# Altium footprint library texas_instruments.PcbLib: 28 footprints (part 1 of 2)
Each footprint in its own frame and in the unit in brackets; x right, y up, seen from the top. Pads: shape width x height; smd on the part's side, far side on the other; paste and mask are expansions set on the pad; w line width, h text height; cw(c..) or ccw(c..) is an arc to the next point about the centre after c.
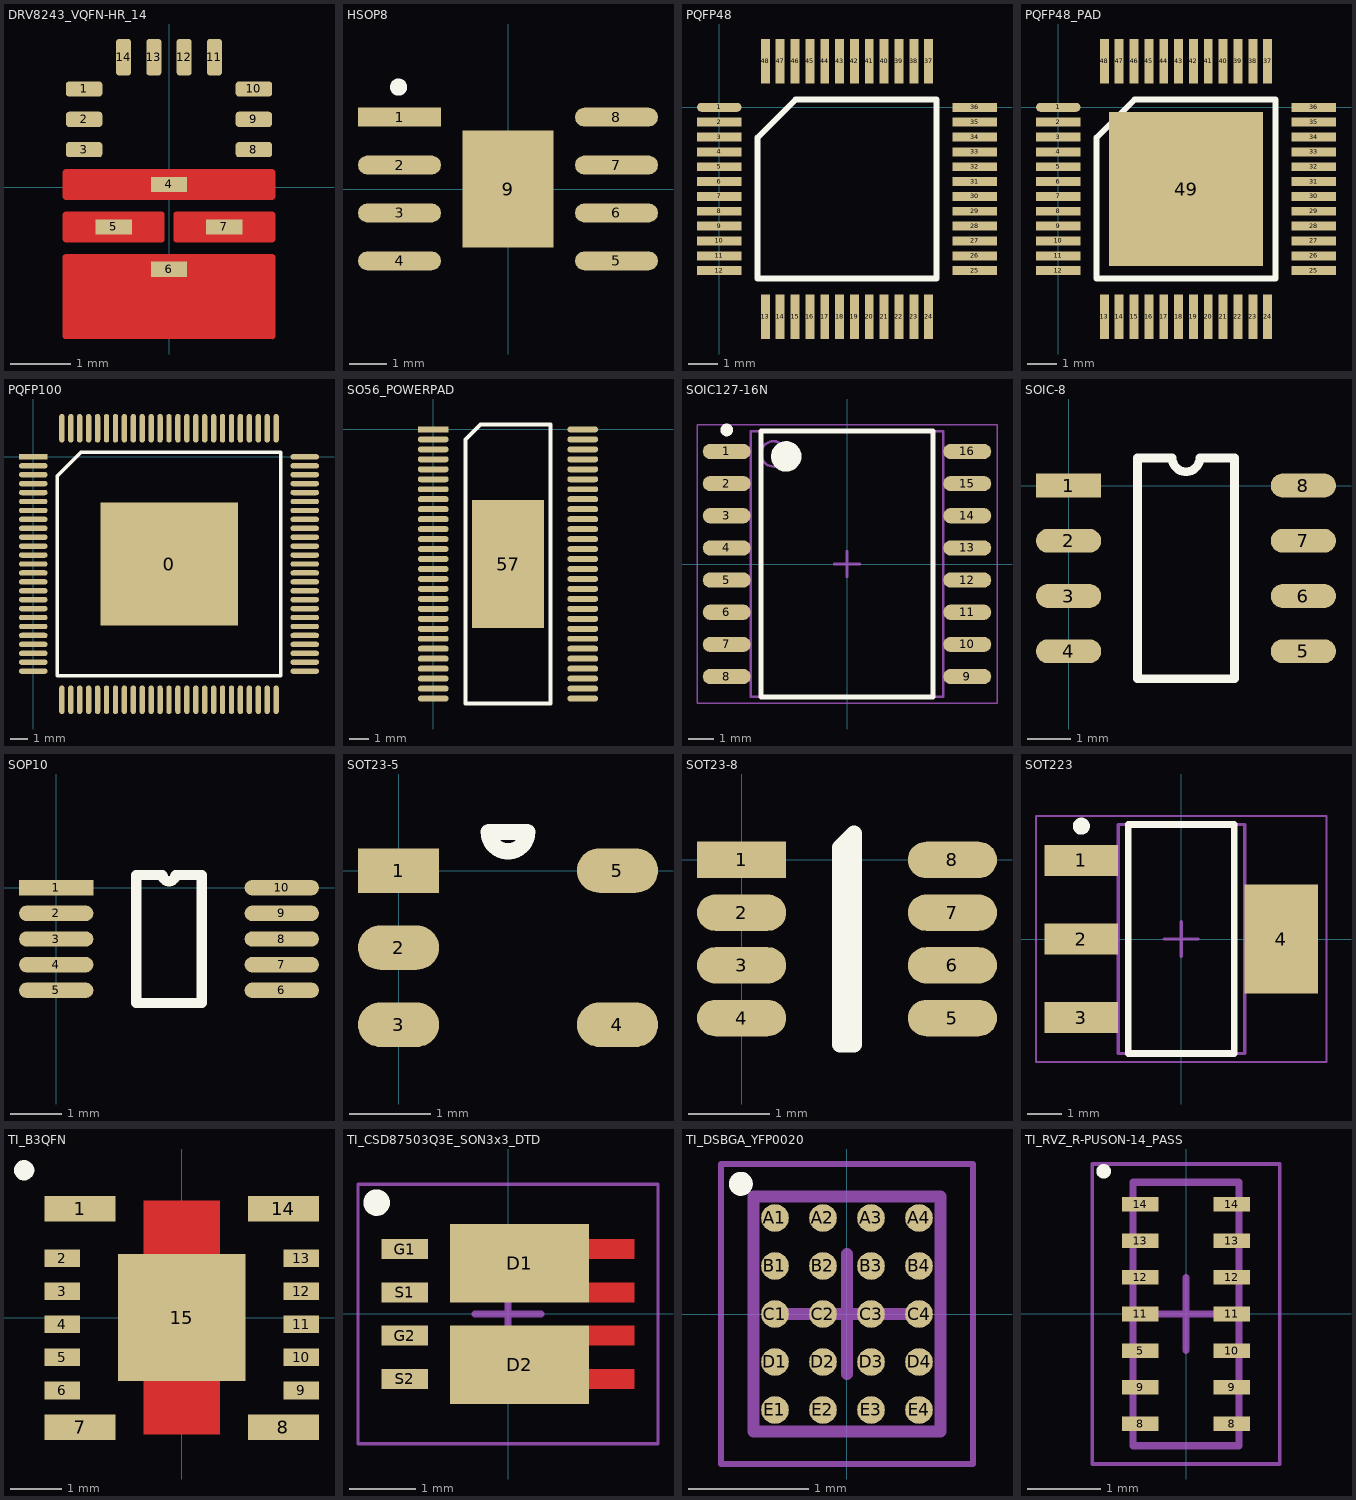
[diagram p0: the footprints below, top view; thin cyan lines are the x and y axes]

## DRV8243_VQFN-HR_14 [mm]
pads (14):
  rrect40% 0.6x0.25 smd paste+0 mask+0.05: 1(-1.4,1.625) 2(-1.4,1.125) 3(-1.4,0.625) 8(1.4,0.625) 9(1.4,1.125) 10(1.4,1.625)
  rect 0.6x0.25 smd paste-2539.97 mask+0: 4(0,0.05) 5(-0.912,-0.65) 6(0,-1.35) 7(0.912,-0.65)
  rrect40% 0.25x0.6 smd paste+0 mask+0.05: 11(0.75,2.15) 12(0.25,2.15) 13(-0.25,2.15) 14(-0.75,2.15)
Top Layer:
  region: 0.124,-0.4 1.7,-0.4 1.71,-0.4 1.728,-0.408 1.742,-0.421 1.749,-0.44 1.749,-0.45 1.749,-0.449 1.749,-0.851 1.749,-0.86 1.742,-0.879 1.728,-0.892 1.71,-0.9 1.7,-0.9 0.124,-0.9 0.114,-0.9 0.096,-0.892 0.082,-0.879 0.074,-0.86 0.075,-0.851 0.075,-0.85 0.075,-0.45 0.075,-0.44 0.082,-0.421 0.096,-0.408 0.114,-0.4
  region: -1.7,-1.1 1.7,-1.1 1.71,-1.1 1.728,-1.108 1.742,-1.122 1.75,-1.14 1.75,-1.15 1.75,-2.45 1.75,-2.46 1.742,-2.478 1.728,-2.492 1.71,-2.5 1.7,-2.5 -1.7,-2.5 -1.71,-2.5 -1.728,-2.492 -1.742,-2.478 -1.75,-2.46 -1.75,-2.45 -1.75,-1.15 -1.75,-1.14 -1.742,-1.122 -1.728,-1.108 -1.71,-1.1
  region: -1.7,-0.4 -0.125,-0.4 -0.115,-0.4 -0.096,-0.408 -0.082,-0.422 -0.075,-0.44 -0.075,-0.451 -0.075,-0.45 -0.075,-0.85 -0.075,-0.86 -0.082,-0.878 -0.096,-0.892 -0.115,-0.9 -0.125,-0.9 -1.7,-0.9 -1.71,-0.9 -1.728,-0.892 -1.742,-0.879 -1.75,-0.86 -1.75,-0.851 -1.75,-0.85 -1.75,-0.45 -1.75,-0.44 -1.742,-0.422 -1.728,-0.408 -1.71,-0.4
  region: -1.7,0.3 1.7,0.3 1.71,0.3 1.728,0.292 1.742,0.278 1.75,0.26 1.75,0.25 1.75,-0.15 1.75,-0.16 1.742,-0.178 1.728,-0.192 1.71,-0.2 1.7,-0.2 -1.7,-0.2 -1.71,-0.2 -1.728,-0.192 -1.742,-0.178 -1.75,-0.16 -1.75,-0.15 -1.75,0.25 -1.75,0.26 -1.742,0.278 -1.728,0.292 -1.71,0.3
Top Paste:
  drawing of 10 lines, arcs and shapes, not listed
Top Solder:
  drawing of 4 lines, arcs and shapes, not listed
3D body "DRV8243.step": height 1, standoff 0, extent -1.501,-2.251 1.501,2.251

## HSOP8 [mm]
pads (9):
  rect 2.2x0.5 smd: 1(-2.875,1.905)
  oval 2.2x0.5 smd: 2(-2.875,0.635) 3(-2.875,-0.635) 4(-2.875,-1.905) 5(2.875,-1.905) 6(2.875,-0.635) 7(2.875,0.635) 8(2.875,1.905)
  rect 2.4x3.1 smd: 9(0,0)
Top Overlay:
  circle w0.254: c-2.9,2.7 r0.1
3D body "HSOP-8-DDA.step": height 1.7, standoff 0, extent -3.014,-2.346 3.014,2.347

## PQFP48 [mm]
pads (48):
  oval 1.5x0.3 smd: 1(0,0)
  rect 1.5x0.3 smd: 2(0,-0.5) 3(0,-1) 4(0,-1.5) 5(0,-2) 6(0,-2.5) 7(0,-3) 8(0,-3.5) 9(0,-4) 10(0,-4.5) 11(0,-5) 12(0,-5.5) 25(8.6,-5.5) 26(8.6,-5) 27(8.6,-4.5) 28(8.6,-4) 29(8.6,-3.5) 30(8.6,-3) 31(8.6,-2.5) 32(8.6,-2) 33(8.6,-1.5) 34(8.6,-1) 35(8.6,-0.5) 36(8.6,0)
  rect 0.3x1.5 smd: 13(1.55,-7.05) 14(2.05,-7.05) 15(2.55,-7.05) 16(3.05,-7.05) 17(3.55,-7.05) 18(4.05,-7.05) 19(4.55,-7.05) 20(5.05,-7.05) 21(5.55,-7.05) 22(6.05,-7.05) 23(6.55,-7.05) 24(7.05,-7.05) 37(7.05,1.55) 38(6.55,1.55) 39(6.05,1.55) 40(5.55,1.55) 41(5.05,1.55) 42(4.55,1.55) 43(4.05,1.55) 44(3.55,1.55) 45(3.05,1.55) 46(2.55,1.55) 47(2.05,1.55) 48(1.55,1.55)
Top Overlay:
  lines w0.2: 1.285,-5.765 7.315,-5.765 7.315,0.265 2.57,0.265 1.285,-1.02 1.285,-5.765
3D body "User Library-LQFP48-2.STEP": height 1.62, standoff -0.01, extent -0.268,-7.325 8.875,1.818

## PQFP48_PAD [mm]
pads (49):
  oval 1.5x0.3 smd: 1(0,0)
  rect 1.5x0.3 smd: 2(0,-0.5) 3(0,-1) 4(0,-1.5) 5(0,-2) 6(0,-2.5) 7(0,-3) 8(0,-3.5) 9(0,-4) 10(0,-4.5) 11(0,-5) 12(0,-5.5) 25(8.6,-5.5) 26(8.6,-5) 27(8.6,-4.5) 28(8.6,-4) 29(8.6,-3.5) 30(8.6,-3) 31(8.6,-2.5) 32(8.6,-2) 33(8.6,-1.5) 34(8.6,-1) 35(8.6,-0.5) 36(8.6,0)
  rect 0.3x1.5 smd: 13(1.55,-7.05) 14(2.05,-7.05) 15(2.55,-7.05) 16(3.05,-7.05) 17(3.55,-7.05) 18(4.05,-7.05) 19(4.55,-7.05) 20(5.05,-7.05) 21(5.55,-7.05) 22(6.05,-7.05) 23(6.55,-7.05) 24(7.05,-7.05) 37(7.05,1.55) 38(6.55,1.55) 39(6.05,1.55) 40(5.55,1.55) 41(5.05,1.55) 42(4.55,1.55) 43(4.05,1.55) 44(3.55,1.55) 45(3.05,1.55) 46(2.55,1.55) 47(2.05,1.55) 48(1.55,1.55)
  rect 5.2x5.2 smd: 49(4.3,-2.75)
Top Overlay:
  lines w0.2: 1.285,-5.765 1.285,-1.02 2.57,0.265 7.315,0.265 7.315,-5.765 1.285,-5.765
3D body "User Library-LQFP48-2.STEP": height 1.62, standoff -0.01, extent -0.268,-7.325 8.875,1.818

## PQFP100 [mm]
pads (101):
  rect 7.7x6.9 smd: 0(7.6,-6)
  rect 1.6x0.3 smd: 1(0,0)
  oval 1.6x0.3 smd: 2(0,-0.5) 3(0,-1) 4(0,-1.5) 5(0,-2) 6(0,-2.5) 7(0,-3) 8(0,-3.5) 9(0,-4) 10(0,-4.5) 11(0,-5) 12(0,-5.5) 13(0,-6) 14(0,-6.5) 15(0,-7) 16(0,-7.5) 17(0,-8) 18(0,-8.5) 19(0,-9) 20(0,-9.5) 21(0,-10) 22(0,-10.5) 23(0,-11) 24(0,-11.5) 25(0,-12) 51(15.2,-12) 52(15.2,-11.5) 53(15.2,-11) 54(15.2,-10.5) 55(15.2,-10) 56(15.2,-9.5) 57(15.2,-9) 58(15.2,-8.5) 59(15.2,-8) 60(15.2,-7.5) 61(15.2,-7) 62(15.2,-6.5) 63(15.2,-6) 64(15.2,-5.5) 65(15.2,-5) 66(15.2,-4.5) 67(15.2,-4) 68(15.2,-3.5) 69(15.2,-3) 70(15.2,-2.5) 71(15.2,-2) 72(15.2,-1.5) 73(15.2,-1) 74(15.2,-0.5) 75(15.2,0)
  oval 0.3x1.6 smd: 26(1.6,-13.6) 27(2.1,-13.6) 28(2.6,-13.6) 29(3.1,-13.6) 30(3.6,-13.6) 31(4.1,-13.6) 32(4.6,-13.6) 33(5.1,-13.6) 34(5.6,-13.6) 35(6.1,-13.6) 36(6.6,-13.6) 37(7.1,-13.6) 38(7.6,-13.6) 39(8.1,-13.6) 40(8.6,-13.6) 41(9.1,-13.6) 42(9.6,-13.6) 43(10.1,-13.6) 44(10.6,-13.6) 45(11.1,-13.6) 46(11.6,-13.6) 47(12.1,-13.6) 48(12.6,-13.6) 49(13.1,-13.6) 50(13.6,-13.6) 76(13.6,1.6) 77(13.1,1.6) 78(12.6,1.6) 79(12.1,1.6) 80(11.6,1.6) 81(11.1,1.6) 82(10.6,1.6) 83(10.1,1.6) 84(9.6,1.6) 85(9.1,1.6) 86(8.6,1.6) 87(8.1,1.6) 88(7.6,1.6) 89(7.1,1.6) 90(6.6,1.6) 91(6.1,1.6) 92(5.6,1.6) 93(5.1,1.6) 94(4.6,1.6) 95(4.1,1.6) 96(3.6,1.6) 97(3.1,1.6) 98(2.6,1.6) 99(2.1,1.6) 100(1.6,1.6)
Top Overlay:
  lines w0.2: 1.335,-12.265 13.865,-12.265 13.865,0.265 2.67,0.265 1.335,-1.07 1.335,-12.265
3D body "TQFP100.STEP": height 1.61, standoff -0.01, extent -0.4,-14 15.6,2

## SO56_POWERPAD [mm]
height 1.2
pads (57):
  rect 1.55x0.3 smd: 1(0,0)
  oval 1.55x0.3 smd: 2(0,-0.5) 3(0,-1) 4(0,-1.5) 5(0,-2) 6(0,-2.5) 7(0,-3) 8(0,-3.5) 9(0,-4) 10(0,-4.5) 11(0,-5) 12(0,-5.5) 13(0,-6) 14(0,-6.5) 15(0,-7) 16(0,-7.5) 17(0,-8) 18(0,-8.5) 19(0,-9) 20(0,-9.5) 21(0,-10) 22(0,-10.5) 23(0,-11) 24(0,-11.5) 25(0,-12) 26(0,-12.5) 27(0,-13) 28(0,-13.5) 29(7.5,-13.5) 30(7.5,-13) 31(7.5,-12.5) 32(7.5,-12) 33(7.5,-11.5) 34(7.5,-11) 35(7.5,-10.5) 36(7.5,-10) 37(7.5,-9.5) 38(7.5,-9) 39(7.5,-8.5) 40(7.5,-8) 41(7.5,-7.5) 42(7.5,-7) 43(7.5,-6.5) 44(7.5,-6) 45(7.5,-5.5) 46(7.5,-5) 47(7.5,-4.5) 48(7.5,-4) 49(7.5,-3.5) 50(7.5,-3) 51(7.5,-2.5) 52(7.5,-2) 53(7.5,-1.5) 54(7.5,-1) 55(7.5,-0.5) 56(7.5,0)
  rect 3.6x6.4 smd: 57(3.75,-6.75)
Top Overlay:
  lines w0.2: 5.875,0.25 2.375,0.25 1.61,-0.515 1.61,-13.75 5.89,-13.75 5.89,0.25

## SOIC127-16N [mm] "SOIC, 16-Leads, Body 10,30x7,50mm, Pitch 1,27mm, IPC Medium Density"
height 2.65
pads (16):
  oval 1.9x0.6 smd: 1(-4.75,4.445) 2(-4.75,3.175) 3(-4.75,1.905) 4(-4.75,0.635) 5(-4.75,-0.635) 6(-4.75,-1.905) 7(-4.75,-3.175) 8(-4.75,-4.445) 9(4.75,-4.445) 10(4.75,-3.175) 11(4.75,-1.905) 12(4.75,-0.635) 13(4.75,0.635) 14(4.75,1.905) 15(4.75,3.175) 16(4.75,4.445)
Top Overlay:
  circle w0.25: c-4.75,5.295 r0.125
  circle w0.6: c-2.4,4.25 r0.3
  lines w0.2: -3.4,-5.25 -3.4,5.25 3.4,5.25 3.4,-5.25 -3.4,-5.25
Mechanical 13:
  circle w0.1: c-2.9,4.35 r0.5
  lines w0.1: -3.8,-5.25 -3.8,5.25 3.8,5.25 3.8,-5.25 -3.8,-5.25
Mechanical 15:
  lines w0.05: -5.925,-5.5 -5.925,5.5 5.925,5.5 5.925,-5.5 -5.925,-5.5
  lines w0.1: -0.5,0 0.5,0 ; 0,-0.5 0,0.5
3D body: height 2.65, standoff 0, extent -3.8,-5.25 3.8,5.25

## SOIC-8 [mm]
height 1.75
pads (8):
  rect 1.5x0.55 smd: 1(0,0)
  oval 1.5x0.55 smd: 2(0,-1.27) 3(0,-2.54) 4(0,-3.81) 5(5.4,-3.81) 6(5.4,-2.54) 7(5.4,-1.27) 8(5.4,0)
Top Overlay:
  lines w0.2: 1.585,-4.445 3.815,-4.445 3.815,0.635 3.017,0.635 cw(c2.7,0.635) 2.382,0.635 1.585,0.635 1.585,-4.445

## SOP10 [mm]
pads (10):
  rect 1.45x0.3 smd: 1(0,0)
  oval 1.45x0.3 smd: 2(0,-0.5) 3(0,-1) 4(0,-1.5) 5(0,-2) 6(4.4,-2) 7(4.4,-1.5) 8(4.4,-1) 9(4.4,-0.5) 10(4.4,0)
Top Overlay:
  lines w0.2: 1.56,-2.25 1.56,0.25 2.075,0.25 ccw(c2.2,0.25) 2.325,0.25 2.84,0.25 2.84,-2.25 1.56,-2.25
3D body "User Library-msop-10.step": height 1.15, standoff 0, extent -0.275,-2.5 4.625,0.5

## SOT23-5 [mm]
height 1.45
pads (5):
  rect 1x0.55 smd: 1(0,0)
  oval 1x0.55 smd: 2(0,-0.95) 3(0,-1.9) 4(2.7,-1.9) 5(2.7,0)
Top Overlay:
  lines w0.2: 1.335,0.475 1.112,0.475 ccw(c1.35,0.475) 1.587,0.475 1.365,0.475

## SOT23-8 [mm]
height 1.45
pads (8):
  rect 1.1x0.45 smd: 1(0,0)
  oval 1.1x0.45 smd: 2(0,-0.65) 3(0,-1.3) 4(0,-1.95) 5(2.6,-1.95) 6(2.6,-1.3) 7(2.6,-0.65) 8(2.6,0)
Top Overlay:
  lines w0.2: 1.215,-2.275 1.215,0.155 1.385,0.325 1.385,-2.275 1.215,-2.275
3D body "User Library-sot238.step": height 1.2, standoff 0, extent -0.075,-2.47 2.725,0.47

## SOT223 [mm] "SOT223, 4-Leads, Body 6,50x7,00mm (avg), Pitch 2,30mm, IPC Medium Density"
height 1.8
pads (4):
  rect 2.15x0.9 smd: 1(-2.925,2.3) 2(-2.925,0) 3(-2.925,-2.3)
  rect 2.15x3.2 smd: 4(2.925,0)
Top Overlay:
  circle w0.25: c-2.925,3.3 r0.125
  lines w0.2: -1.55,-3.35 1.55,-3.35 1.55,3.35 -1.55,3.35 -1.55,-3.35
Mechanical 13:
  lines w0.1: -1.85,-3.35 1.85,-3.35 1.85,3.35 -1.85,3.35 -1.85,-3.35
Mechanical 15:
  lines w0.05: -4.25,-3.6 4.25,-3.6 4.25,3.6 -4.25,3.6 -4.25,-3.6
  lines w0.1: -0.5,0 0.5,0 ; 0,-0.5 0,0.5
3D body: height 1.8, standoff 0.02, extent -1.85,-3.35 1.85,3.35

## TI_B3QFN [mm]
pads (15):
  rect 1.4x0.5 smd paste+0 mask+0.102: 1(-2,2.145) 7(-2,-2.155) 8(2,-2.155) 14(2,2.145)
  rect 0.7x0.35 smd paste+0 mask+0.102: 2(-2.35,1.17) 3(-2.35,0.52) 4(-2.35,-0.13) 5(-2.35,-0.78) 9(2.35,-1.43) 10(2.35,-0.78) 11(2.35,-0.13) 12(2.35,0.52) 13(2.35,1.17)
  rect 0.7x0.35 smd: 6(-2.35,-1.43)
  rect 2.5x2.5 smd paste+0 mask+0.102: 15(0,0)
Top Layer:
  rectangle: -0.75,-2.3 0.75,2.3
Top Overlay:
  circle w0.2: c-3.1,2.9 r0.1
3D body: height 4.1, standoff 0, extent -2.55,-2.8 2.55,2.8
3D body: height 4.11, standoff 4.1, extent -2.097,1.801 -1.5,2.4

## TI_CSD87503Q3E_SON3x3_DTD [mm] "SON, 8-Leads, Body 3,30x3,30mm, Pitch 0,65mm, IPC Medium Density"
height 1
pads (6):
  rect 2.09x1.18 smd: D1(0.175,0.763) D2(0.175,-0.763)
  rect 0.7x0.3 smd: G1(-1.55,0.975) G2(-1.55,-0.325) S1(-1.55,0.325) S2(-1.55,-0.975)
Top Layer:
  rectangle: 1.2,-0.475 1.9,-0.175
  rectangle: 1.2,-1.125 1.9,-0.825
  rectangle: 1.2,0.175 1.9,0.475
  rectangle: 1.2,0.825 1.9,1.125
Top Overlay:
  circle w0.2: c-1.975,1.675 r0.1
Mechanical 15:
  lines w0.05: -2.255,-1.95 -2.255,1.95 2.255,1.95 2.255,-1.95 -2.255,-1.95
  lines w0.1: -0.5,0 0.5,0 ; 0,-0.5 0,0.5
3D body "TI_CSD87503Q3E_SON3x3_DTD.step": height 1, standoff 0, extent -1.701,-1.7 1.701,1.7

## TI_DSBGA_YFP0020 [mm] "BGA, 20-Leads, Body 1,56x1,96mmx0,50mm, Pitch 0,40mm"
height 0.5
pads (20):
  round 0.23 smd: A1(-0.6,0.8) A2(-0.2,0.8) A3(0.2,0.8) A4(0.6,0.8) B1(-0.6,0.4) B2(-0.2,0.4) B3(0.2,0.4) B4(0.6,0.4) C1(-0.6,0) C2(-0.2,0) C3(0.2,0) C4(0.6,0) D1(-0.6,-0.4) D2(-0.2,-0.4) D3(0.2,-0.4) D4(0.6,-0.4) E1(-0.6,-0.8) E2(-0.2,-0.8) E3(0.2,-0.8) E4(0.6,-0.8)
Top Overlay:
  circle w0.1: c-0.885,1.085 r0.05
Top 3D Body:
  lines w0.1: -0.78,-0.98 -0.78,0.98 0.78,0.98 0.78,-0.98 -0.78,-0.98
Mechanical 15:
  lines w0.05: -1.05,-1.25 -1.05,1.25 1.05,1.25 1.05,-1.25 -1.05,-1.25
  lines w0.1: -0.5,0 0.5,0 ; 0,-0.5 0,0.5
3D body "TI_DSBGA_YFP0020.step": height 0.5, standoff 0, extent -0.78,-0.98 0.78,0.98

## TI_RVZ_R-PUSON-14_PASS [mm] "SON, 14-Leads, Body 3,50x1,35mm, Pitch 0,50mm, IPC Medium Density"
height 0.55
pads (14):
  rect 0.5x0.2 smd: 5(-0.625,-0.5) 8(-0.625,-1.5) 8(0.625,-1.5) 9(-0.625,-1) 9(0.625,-1) 10(0.625,-0.5) 11(-0.625,0) 11(0.625,0) 12(-0.625,0.5) 12(0.625,0.5) 13(-0.625,1) 13(0.625,1) 14(-0.625,1.5) 14(0.625,1.5)
Top Overlay:
  circle w0.1: c-1.125,1.95 r0.05
Top 3D Body:
  lines w0.1: -0.725,-1.8 -0.725,1.8 0.725,1.8 0.725,-1.8 -0.725,-1.8
Mechanical 15:
  lines w0.05: -1.28,-2.05 -1.28,2.05 1.28,2.05 1.28,-2.05 -1.28,-2.05
  lines w0.1: -0.5,0 0.5,0 ; 0,-0.5 0,0.5
3D body "SON50P140X55-14N.step": height 0.55, standoff 0, extent -0.726,-1.8 0.726,1.8